# EAGLE library part MANGOH_EXPANSION (library MangOH)
IoT Expansion Card and EDGE connector Part of MangOH Red, Green, FX30 Sierra Wireless Linaro (Linux) based 3G/4G, Ethernet, Wi-Fi router and IoT Edge Computing Device More info: MangOH website <http://mangoh.io>
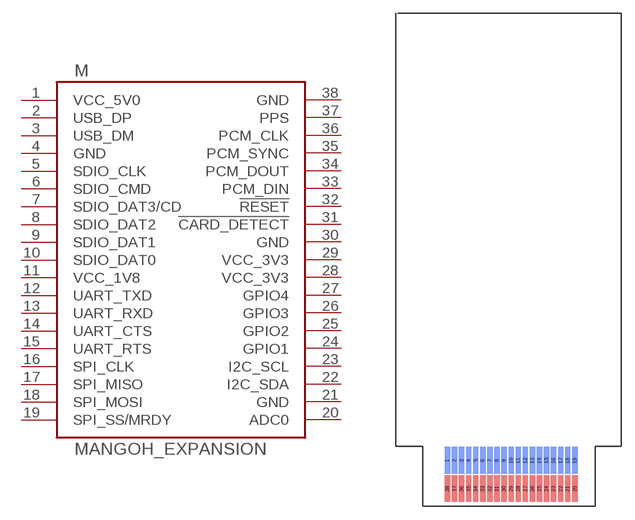
[diagram p0: symbol with the pads of MANGOH; footprint MANGOH]

Designator prefix M

## MANGOH_EXPANSION  [MANGOH]
1  VCC_5V0
2  USB_DP
3  USB_DM
4  GND
5  SDIO_CLK  in
6  SDIO_CMD  in
7  SDIO_DAT3/CD
8  SDIO_DAT2
9  SDIO_DAT1
10  SDIO_DAT0
11  VCC_1V8
12  UART_TXD  out
13  UART_RXD  out
14  UART_CTS  in
15  UART_RTS  out
16  SPI_CLK  in
17  SPI_MISO  out
18  SPI_MOSI  in
19  SPI_SS/MRDY  in
20  ADC0  out
21  GND
22  I2C_SDA
23  I2C_SCL  in
24  GPIO1
25  GPIO2
26  GPIO3
27  GPIO4
28  VCC_3V3
29  VCC_3V3
30  GND
31  !CARD_DETECT!
32  !RESET!  in
33  PCM_DIN  out
34  PCM_DOUT
35  PCM_SYNC  in
36  PCM_CLK  in
37  PPS  in
38  GND

## Footprint MANGOH (pad centres in mm)
MangOH SFP Connector 38-Pin Edge
smd 0.6 x 3 bottom: 1 -7,5.2; 2 -6.2,5.2; 3 -5.4,5.2; 4 -4.6,5.2; 5 -3.8,5.2; 6 -3,5.2; 7 -2.2,5.2; 8 -1.4,5.2; 9 -0.6,5.2; 10 0.2,5.2; 11 1,5.2; 12 1.8,5.2; 13 2.6,5.2; 14 3.4,5.2; 15 4.2,5.2; 16 5,5.2; 17 5.8,5.2; 18 6.6,5.2; 19 7.4,5.2
smd 0.6 x 3: 20 7.4,2; 21 6.6,2; 22 5.8,2; 23 5,2; 24 4.2,2; 25 3.4,2; 26 2.6,2; 27 1.8,2; 28 1,2; 29 0.2,2; 30 -0.6,2; 31 -1.4,2; 32 -2.2,2; 33 -3,2; 34 -3.8,2; 35 -4.6,2; 36 -5.4,2; 37 -6.2,2; 38 -7,2